# Altium schematic symbol library 2020_july_Push_Button.SchLib: 1 symbol
Pins are listed as number, name and electrical type; pins without a type are passive.

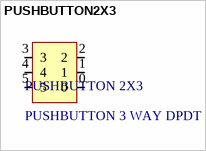
[diagram p0: symbol PUSHBUTTON2X3]

## PUSHBUTTON2X3
designator PUSHBUTTON 2X3, comment PUSHBUTTON 3 WAY DPDT
footprint PCBComponent_1
pins: 0, 1, 2, 3, 4, 5